# EAGLE library part MCP4028_DIGIPOT_BREAKOUT (library e-radionica_E-R MADE)
SKU: 222001 The digital potentiometer device is identical to the potentiometer, but instead of the physical rotating oscillation, the resistance uses digital communication. Specifically, the digital potentiometer resistance is adjusted via I2C communication. Our module is based on the MCP4018 IC which has a total of 128 steps between resistance values 0 and 10k. This would mean that it is able to take resistance steps of approximately 78ohm. Controlled via I2C, which makes it extremely easy to use. • Voltage: 1.8V - 5V • Potentiometer resistance: 10k • Wiper resistance: 100ohm • Dimensions: 13 x 15 cm
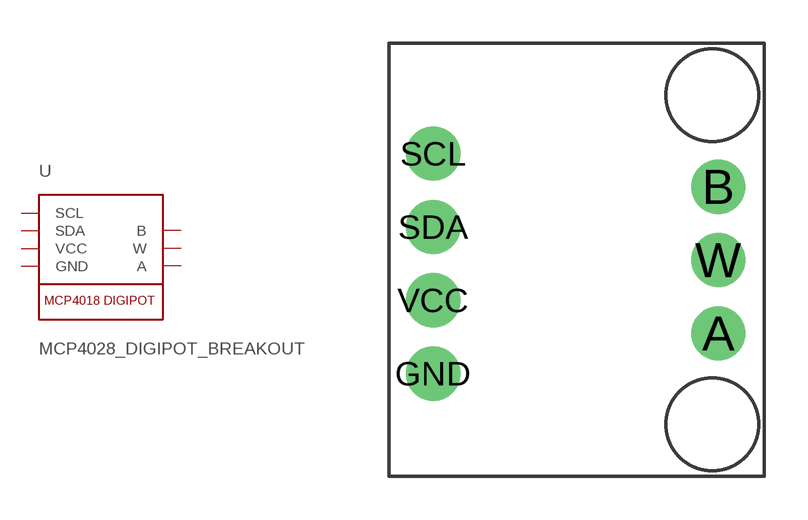
[diagram p4: symbol with the pads of MCP4018_DIGIPOT_BREAKOUT; footprint MCP4018_DIGIPOT_BREAKOUT]

Designator prefix -

## MCP4028_DIGIPOT_BREAKOUT  [MCP4018_DIGIPOT_BREAKOUT]
A  A
B  B
GND  GND  sup
SCL  SCL
SDA  SDA
VCC  VCC  sup
W  W

## Footprint MCP4018_DIGIPOT_BREAKOUT (pad centres in mm)
drill 1.016 pad 1.88: A 11.4,4.95; B 11.4,10.03; GND 1.524,3.556; SCL 1.524,11.176; SDA 1.524,8.636; VCC 1.524,6.096; W 11.4,7.49